# Altium schematic symbol library SamacSys.SchLib: 6 symbols
Pins are listed as number, name and electrical type; pins without a type are passive.

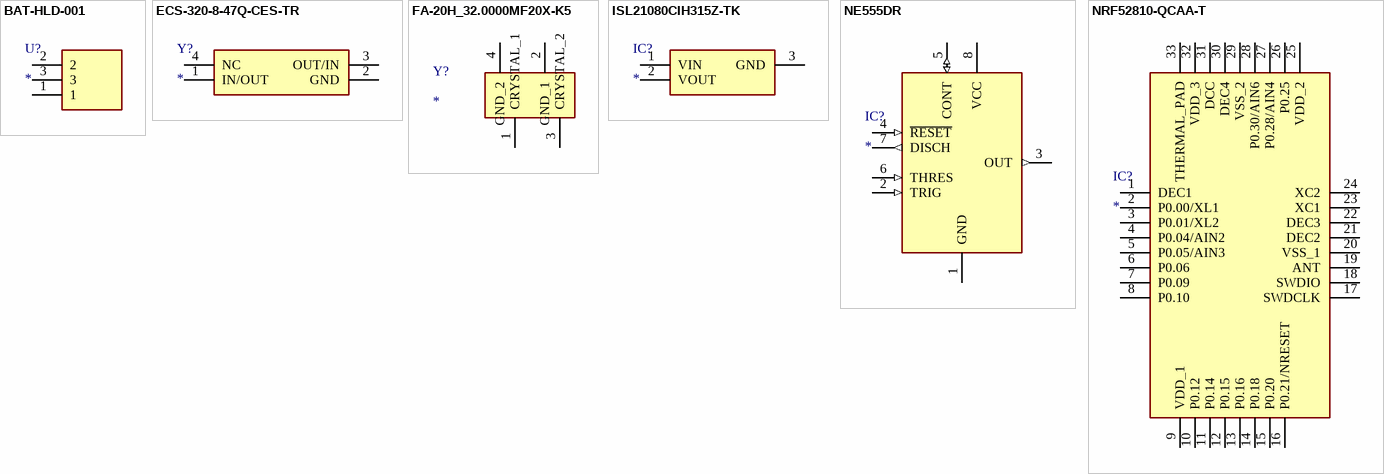
[diagram p0: symbols BAT-HLD-001 to NRF52810-QCAA-T]

## BAT-HLD-001
designator U?
Undefined or Miscellaneous; Manufacturer_Name: Linx Technologies; Manufacturer_Part_Number: BAT-HLD-001; Datasheet Link: https://www.mouser.com/ds/2/238/bat-hld-001-220194.pdf; Height: 4mm; Mouser Part Number: 712-BAT-HLD-001; Mouser Price/Stock: https://www.mouser.co.uk/ProductDetail/Linx-Technologies/BAT-HLD-001?qs=K5ta8V%252BWhta7hbVGfm4dqA%3D%3D
footprint BATHLD001
pins: 1, 2, 3

## ECS-320-8-47Q-CES-TR
designator Y?
Crystal or Oscillator; Manufacturer_Name: ECS; Manufacturer_Part_Number: ECS-320-8-47Q-CES-TR; Datasheet Link: https://www.ecsxtal.com/store/pdf/ECX-1247Q.pdf; Height: 0.4mm; Mouser Part Number: 520-320-8-47Q-CEST; Mouser Price/Stock: https://www.mouser.com/Search/Refine.aspx?Keyword=520-320-8-47Q-CEST
footprint ECS320847QCESTR
pins: 1 IN/OUT, 2 GND, 3 OUT/IN, 4 NC

## FA-20H_32.0000MF20X-K5
designator Y?
Crystal or Oscillator; Manufacturer_Name: Epson Timing; Manufacturer_Part_Number: FA-20H 32.0000MF20X-K5; Datasheet Link: https://support.epson.biz/td/api/doc_check.php?dl=brief_FA-20H&lang=en; Height: 0.55mm; Mouser Part Number: 732-FA-20H32MF20X-K5; Mouser Price/Stock: https://www.mouser.co.uk/ProductDetail/Epson-Timing/FA-20H-320000MF20X-K5?qs=f9yNj16SXrLwvA3JhG%252BQFg%3D%3D
footprint FA20H160000MF12ZAC3
pins: 1 CRYSTAL_1, 2 GND_1, 3 CRYSTAL_2, 4 GND_2

## ISL21080CIH315Z-TK
designator IC?
Integrated Circuit; Manufacturer_Name: Renesas Electronics; Manufacturer_Part_Number: ISL21080CIH315Z-TK; Datasheet Link: https://www.renesas.com/en-us/www/doc/datasheet/isl21080.pdf; Height: 1.12mm; Mouser Part Number: 968-ISL21080CIH315ZT; Mouser Price/Stock: http://www.mouser.com/Search/ProductDetail.aspx?qs=9fLuogzTs8LxZWNzls3EKw%3d%3d
footprint SOT95P237X112-3N
pins: 1 VIN, 2 VOUT, 3 GND

## NE555DR
designator IC?
Integrated Circuit; Manufacturer_Name: Texas Instruments; Manufacturer_Part_Number: NE555DR; Datasheet Link: http://www.ti.com/lit/ds/symlink/ne555.pdf; Height: 1.75mm; Mouser Part Number: 595-NE555DR; Mouser Price/Stock: https://www.mouser.com/Search/Refine.aspx?Keyword=595-NE555DR; RS Part Number: 1218414; RS Price/Stock: http://uk.rs-online.com/web/p/products/1218414
footprint SOIC127P600X175-8N
pins: 1 GND (power), 2 TRIG (in), 3 OUT (out), 4 ~{RESET} (in), 5 CONT (io), 6 THRES (in), 7 DISCH (out), 8 VCC (power)

## NRF52810-QCAA-T
designator IC?
Integrated Circuit; Manufacturer_Name: Nordic Semiconductor; Manufacturer_Part_Number: NRF52810-QCAA-T; Datasheet Link: https://componentsearchengine.com/Datasheets/1/nRF52810-QCAA-T.pdf; Height: 0.8mm; Mouser Part Number: 949-NRF52810-QCAA-T; Mouser Price/Stock: https://www.mouser.co.uk/ProductDetail/Nordic-Semiconductor/nRF52810-QCAA-T?qs=5aG0NVq1C4ykfpvypn%2FnAA%3D%3D; RS Part Number: 1697120P; RS Price/Stock: http://uk.rs-online.com/web/p/products/1697120P
footprint QFN50P500X500X80-33N
pins: 1 DEC1, 2 P0.00/XL1, 3 P0.01/XL2, 4 P0.04/AIN2, 5 P0.05/AIN3, 6 P0.06, 7 P0.09, 8 P0.10, 9 VDD_1, 10 P0.12, 11 P0.14, 12 P0.15, 13 P0.16, 14 P0.18, 15 P0.20, 16 P0.21/NRESET, 17 SWDCLK, 18 SWDIO, 19 ANT, 20 VSS_1, 21 DEC2, 22 DEC3, 23 XC1, 24 XC2, 25 VDD_2, 26 P0.25, 27 P0.28/AIN4, 28 P0.30/AIN6, 29 VSS_2, 30 DEC4, 31 DCC, 32 VDD_3, 33 THERMAL_PAD